# Altium footprint library QFP - Rectangle.PcbLib: 17 footprints (part 2 of 2)
Each footprint in its own frame and in the unit in brackets; x right, y up, seen from the top. Pads: shape width x height; smd on the part's side, far side on the other; paste and mask are expansions set on the pad; w line width, h text height; cw(c..) or ccw(c..) is an arc to the next point about the centre after c.
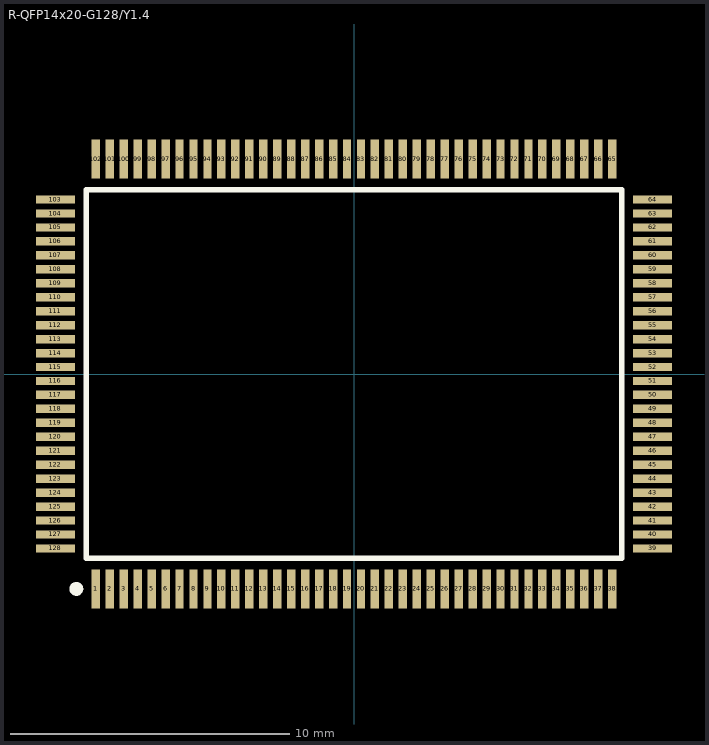
[diagram p1: the footprint, top view; thin cyan lines are the x and y axes]

## R-QFP14x20-G128/Y1.4 [mm] "QFP; 128 Leads; Body 14 x 20 mm; Pitch 0.5 mm"
height 1.7
pads (128):
  rect 0.3x1.4 smd: 1(-9.25,-7.7) 2(-8.75,-7.7) 3(-8.25,-7.7) 4(-7.75,-7.7) 5(-7.25,-7.7) 6(-6.75,-7.7) 7(-6.25,-7.7) 8(-5.75,-7.7) 9(-5.25,-7.7) 10(-4.75,-7.7) 11(-4.25,-7.7) 12(-3.75,-7.7) 13(-3.25,-7.7) 14(-2.75,-7.7) 15(-2.25,-7.7) 16(-1.75,-7.7) 17(-1.25,-7.7) 18(-0.75,-7.7) 19(-0.25,-7.7) 20(0.25,-7.7) 21(0.75,-7.7) 22(1.25,-7.7) 23(1.75,-7.7) 24(2.25,-7.7) 25(2.75,-7.7) 26(3.25,-7.7) 27(3.75,-7.7) 28(4.25,-7.7) 29(4.75,-7.7) 30(5.25,-7.7) 31(5.75,-7.7) 32(6.25,-7.7) 33(6.75,-7.7) 34(7.25,-7.7) 35(7.75,-7.7) 36(8.25,-7.7) 37(8.75,-7.7) 38(9.25,-7.7) 65(9.25,7.7) 66(8.75,7.7) 67(8.25,7.7) 68(7.75,7.7) 69(7.25,7.7) 70(6.75,7.7) 71(6.25,7.7) 72(5.75,7.7) 73(5.25,7.7) 74(4.75,7.7) 75(4.25,7.7) 76(3.75,7.7) 77(3.25,7.7) 78(2.75,7.7) 79(2.25,7.7) 80(1.75,7.7) 81(1.25,7.7) 82(0.75,7.7) 83(0.25,7.7) 84(-0.25,7.7) 85(-0.75,7.7) 86(-1.25,7.7) 87(-1.75,7.7) 88(-2.25,7.7) 89(-2.75,7.7) 90(-3.25,7.7) 91(-3.75,7.7) 92(-4.25,7.7) 93(-4.75,7.7) 94(-5.25,7.7) 95(-5.75,7.7) 96(-6.25,7.7) 97(-6.75,7.7) 98(-7.25,7.7) 99(-7.75,7.7) 100(-8.25,7.7) 101(-8.75,7.7) 102(-9.25,7.7)
  rect 1.4x0.3 smd: 39(10.7,-6.25) 40(10.7,-5.75) 41(10.7,-5.25) 42(10.7,-4.75) 43(10.7,-4.25) 44(10.7,-3.75) 45(10.7,-3.25) 46(10.7,-2.75) 47(10.7,-2.25) 48(10.7,-1.75) 49(10.7,-1.25) 50(10.7,-0.75) 51(10.7,-0.25) 52(10.7,0.25) 53(10.7,0.75) 54(10.7,1.25) 55(10.7,1.75) 56(10.7,2.25) 57(10.7,2.75) 58(10.7,3.25) 59(10.7,3.75) 60(10.7,4.25) 61(10.7,4.75) 62(10.7,5.25) 63(10.7,5.75) 64(10.7,6.25) 103(-10.7,6.25) 104(-10.7,5.75) 105(-10.7,5.25) 106(-10.7,4.75) 107(-10.7,4.25) 108(-10.7,3.75) 109(-10.7,3.25) 110(-10.7,2.75) 111(-10.7,2.25) 112(-10.7,1.75) 113(-10.7,1.25) 114(-10.7,0.75) 115(-10.7,0.25) 116(-10.7,-0.25) 117(-10.7,-0.75) 118(-10.7,-1.25) 119(-10.7,-1.75) 120(-10.7,-2.25) 121(-10.7,-2.75) 122(-10.7,-3.25) 123(-10.7,-3.75) 124(-10.7,-4.25) 125(-10.7,-4.75) 126(-10.7,-5.25) 127(-10.7,-5.75) 128(-10.7,-6.25)
Top Overlay:
  circle w0.25: c-9.95,-7.7 r0.125
  lines w0.2: -9.6,-6.6 9.6,-6.6 9.6,6.6 -9.6,6.6 -9.6,-6.6